# EAGLE library part LCD-G12864 (library geoffculp)
Graphical LCD 128x64 Footprint is not yet proven. Double check it. Spark Fun Electronics SKU : LCD-00710
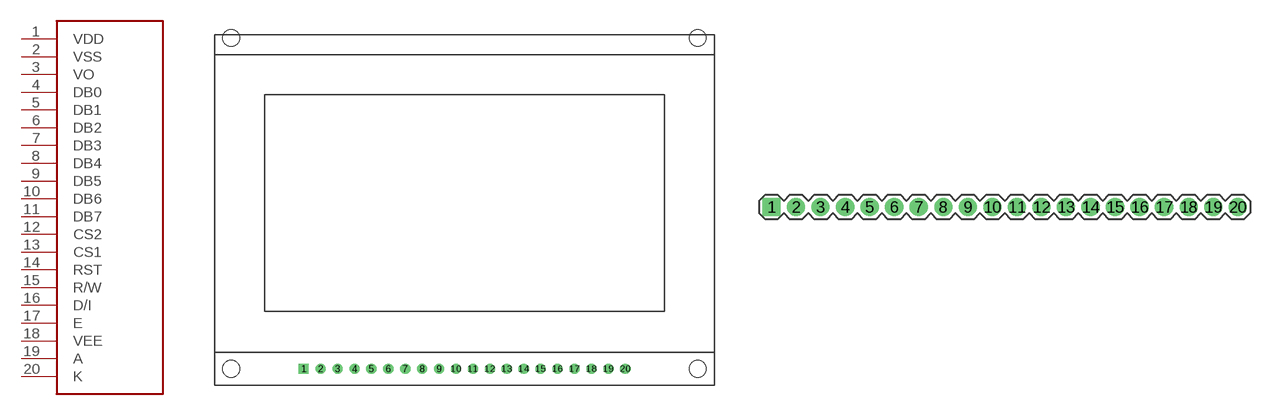
[diagram p25: symbol with the pads of LCD-G12864; footprints LCD-G12864, 1X20]

Designator prefix -

## LCD-G12864FULL  [LCD-G12864]
1  VDD  pwr
2  VSS  pwr
3  VO
4  DB0
5  DB1
6  DB2
7  DB3
8  DB4
9  DB5
10  DB6
11  DB7
12  CS2  in
13  CS1  in
14  RST  in
15  R/W  in
16  D/I  in
17  E  in
18  VEE
19  A  pwr
20  K  pwr

## LCD-G12864BARE  [1X20]
Pads as for LCD-G12864

## Footprint LCD-G12864 (pad centres in mm)
drill 1.016 square: 1 13.4,2.5
drill 1.016 round: 2 15.94,2.5; 3 18.48,2.5; 4 21.02,2.5; 5 23.56,2.5; 6 26.1,2.5; 7 28.64,2.5; 8 31.18,2.5; 9 33.72,2.5; 10 36.26,2.5; 11 38.8,2.5; 12 41.34,2.5; 13 43.88,2.5; 14 46.42,2.5; 15 48.96,2.5; 16 51.5,2.5; 17 54.04,2.5; 18 56.58,2.5; 19 59.12,2.5; 20 61.66,2.5
hole 2.5 at 2.5,2.5
hole 2.5 at 2.5,52.2
hole 2.5 at 72.5,52.2
hole 2.5 at 72.5,2.5

## Footprint 1X20 (pad centres in mm)
drill 1.016 pad 1.88 square: 1 0,0
drill 1.016 pad 1.88 round: 2 2.54,0; 3 5.08,0; 4 7.62,0; 5 10.16,0; 6 12.7,0; 7 15.24,0; 8 17.78,0; 9 20.32,0; 10 22.86,0; 11 25.4,0; 12 27.94,0; 13 30.48,0; 14 33.02,0; 15 35.56,0; 16 38.1,0; 17 40.64,0; 18 43.18,0; 19 45.72,0; 20 48.26,0